# Altium footprint library Copy of PcbLib1.PcbLib: 29 footprints (part 1 of 2)
Each footprint in its own frame and in the unit in brackets; x right, y up, seen from the top. Pads: shape width x height; smd on the part's side, far side on the other; paste and mask are expansions set on the pad; w line width, h text height; cw(c..) or ccw(c..) is an arc to the next point about the centre after c.
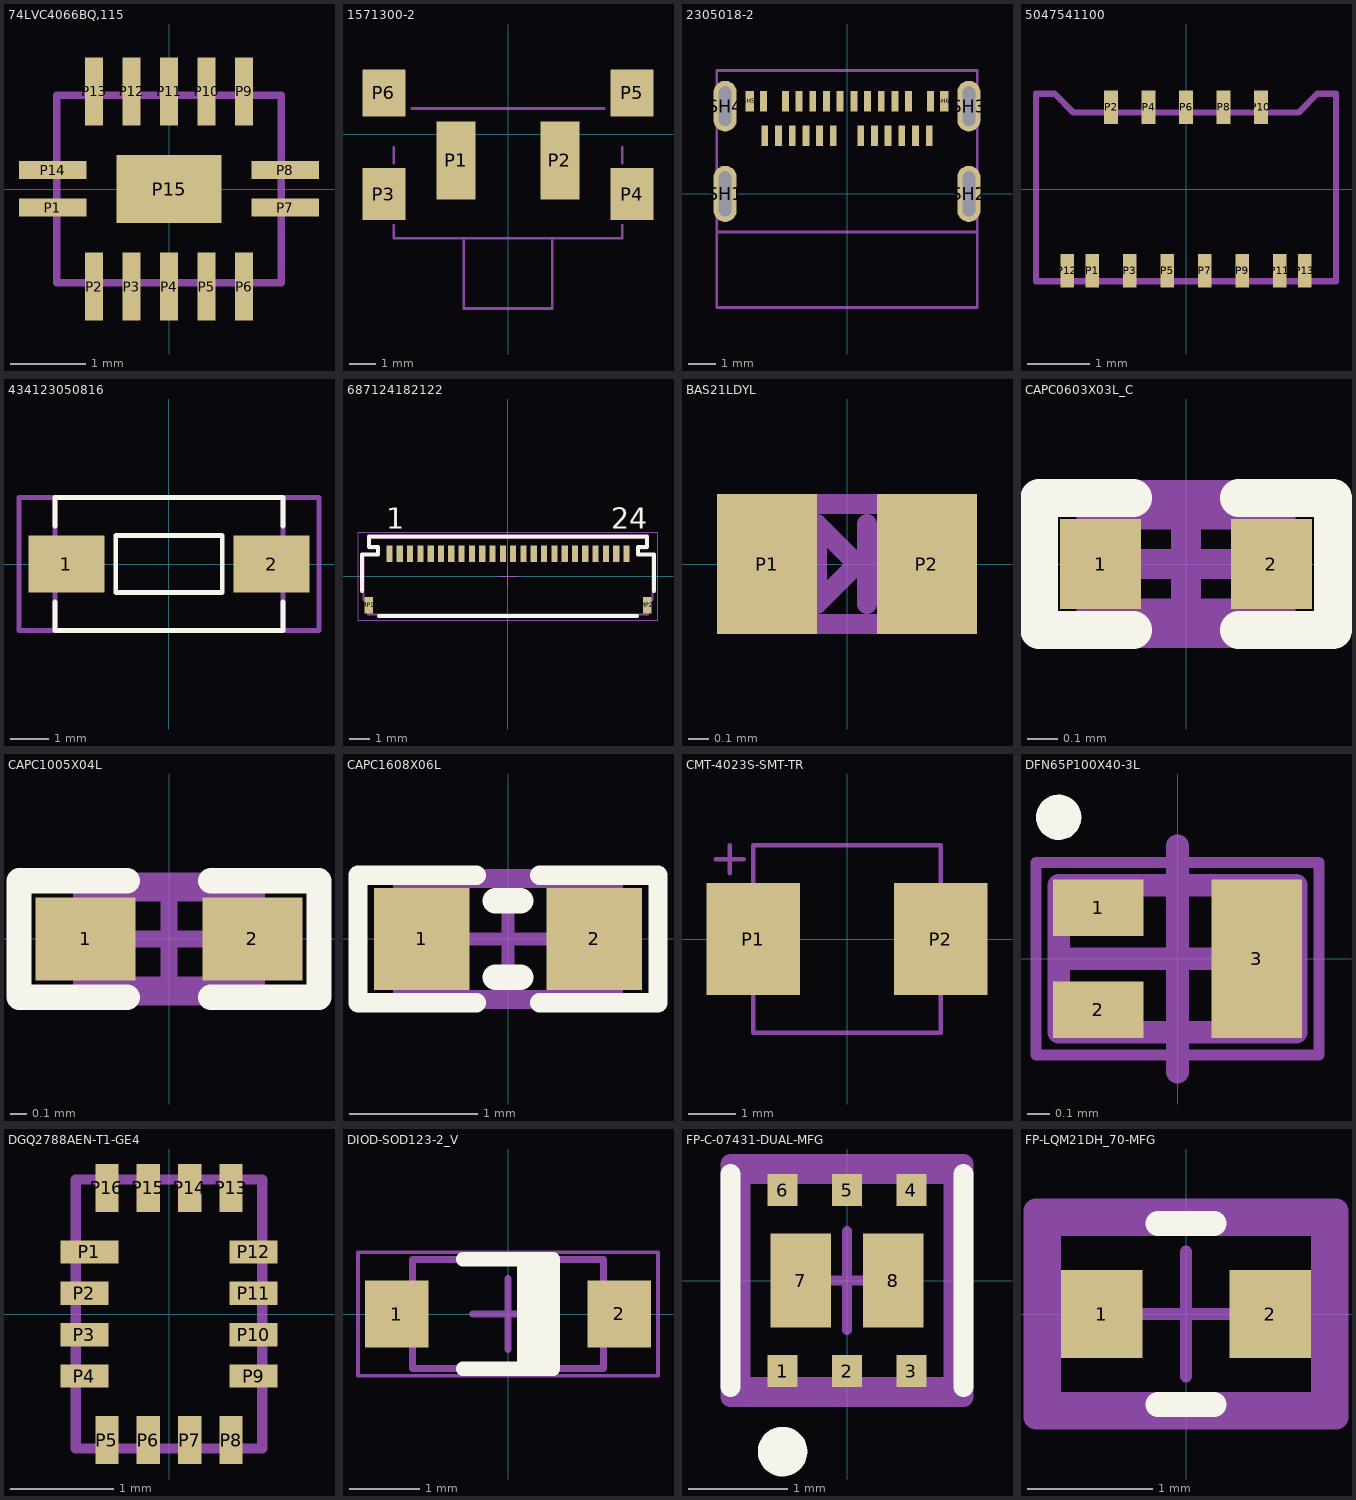
[diagram p0: the footprints below, top view; thin cyan lines are the x and y axes]

## 74LVC4066BQ,115 [mm] "Analogue Switch ICs QUAD ANALOG SW."
height 1
pads (15):
  rect 0.9x0.24 smd: P1(-1.55,-0.25) P7(1.55,-0.25) P8(1.55,0.25) P14(-1.55,0.25)
  rect 0.24x0.9 smd: P2(-1,-1.3) P3(-0.5,-1.3) P4(0,-1.3) P5(0.5,-1.3) P6(1,-1.3) P9(1,1.3) P10(0.5,1.3) P11(0,1.3) P12(-0.5,1.3) P13(-1,1.3)
  rect 1.4x0.9 smd: P15(0,0)
Top Designator:
  text ".Designator" at 0.1,0.3 h0.6
Top Assembly:
  lines w0.1: -1.5,-1.25 1.5,-1.25 1.5,1.25 -1.5,1.25 -1.5,-1.25
Top Component Outline:
  lines w0.1: -1.5,-1.25 1.5,-1.25 1.5,1.25 -1.5,1.25 -1.5,-1.25
3D body: height 1, standoff 0, extent -1.5,-1.25 1.5,1.25

## 1571300-2 [mm]
height 8.1
pads (6):
  rect 1.5x3 smd: P1(-2,-1) P2(2,-1)
  rect 1.65x2 smd: P3(-4.775,-2.3) P4(4.775,-2.3)
  rect 1.65x1.8 smd: P5(4.775,1.6) P6(-4.775,1.6)
Top Designator:
  text ".Designator" at 0.1,0.3 h0.6
Top Assembly:
  lines w0.1: -4.4,-3.5 -4.4,-4 4.4,-4 4.4,-3.5 ; -4.4,-1.1 -4.4,-0.5 ; -3.7,1 3.7,1 ; -1.7,-4 -1.7,-6.7 1.7,-6.7 1.7,-4 ; 4.4,-1.1 4.4,-0.5
Top Component Outline:
  lines w0.1: -4.4,-3.5 -4.4,-4 4.4,-4 4.4,-3.5 ; -4.4,-1.1 -4.4,-0.5 ; -3.7,1 3.7,1 ; -1.7,-4 -1.7,-6.7 1.7,-6.7 1.7,-4 ; 4.4,-1.1 4.4,-0.5
Multi-Layer:
  circle w0.01: c-4.4,0 r0.375
  circle w0.01: c4.4,0 r0.375
3D body "c-1571300-2-h-3d.stp": height 8.1, standoff -0.5, extent -4.85,-6.7 4.85,1.5

## 2305018-2 [mm] "USB TYPE C, REC IPX8 ON BOARD DUAL SMT"
height 4.06
pads (31):
  rect 0.25x0.75 smd: A1(-3.05,3.374) A2(-2.25,3.374) A3(-1.75,3.374) A4(-1.25,3.374) A5(-0.75,3.374) A6(-0.25,3.374) A7(0.25,3.374) A8(0.75,3.374) A9(1.25,3.374) A10(1.75,3.374) A11(2.25,3.374) A12(3.05,3.374) B1(3,2.124) B2(2.5,2.124) B3(2,2.124) B4(1.5,2.124) B5(1,2.124) B6(0.5,2.124) B7(-0.5,2.124) B8(-1,2.124) B9(-1.5,2.124) B10(-2,2.124) B10(-2,2.124) B11(-2.5,2.124) B12(-3,2.124)
  rrect100% 0.85x2.05 hole 0.45 slot 1.65 at 90 deg: SH1(-4.45,-0.001) SH2(4.45,-0.001)
  rrect100% 0.85x1.85 hole 0.45 slot 1.45 at 90 deg: SH3(4.45,3.199) SH4(-4.45,3.199)
  rect 0.3x0.75 smd: SH5(-3.55,3.374) SH6(3.55,3.374)
Top Designator:
  text ".Designator" at -7.618,-0.396 h1.52
Top Assembly:
  lines w0.1: -4.75,-1.4 4.75,-1.4 ; -4.75,-4.15 -4.75,4.5 4.75,4.5 4.75,-4.15 -4.75,-4.15
Top Component Outline:
  lines w0.1: -4.749,-1.398 4.751,-1.398 ; -4.749,-4.148 -4.749,4.502 4.751,4.502 4.751,-4.148 -4.749,-4.148
3D body "c-2305018-2-a-3d.stp": height 3.54, standoff -0.52, extent -4.918,-4.213 4.918,4.437

## 5047541100 [mm] "Connector FPC11"
height 0.75
pads (13):
  rect 0.22x0.54 smd: P1(-1.5,-1.307) P2(-1.2,1.308) P3(-0.9,-1.307) P4(-0.6,1.308) P5(-0.3,-1.307) P6(0,1.308) P7(0.3,-1.307) P8(0.6,1.308) P9(0.9,-1.307) P10(1.2,1.308) P11(1.5,-1.307) P12(-1.9,-1.307) P13(1.9,-1.307)
Top Designator:
  text ".Designator" at -2,-0.178 h0.6
Top Assembly:
  lines w0.1: -2.4,-1.477 -2.4,1.523 -2.1,1.523 -1.8,1.223 1.8,1.223 2.1,1.523 2.4,1.523 2.4,-1.477 -2.4,-1.477
Top Component Outline:
  lines w0.1: -2.4,-1.477 -2.4,1.523 -2.1,1.523 -1.8,1.223 1.8,1.223 2.1,1.523 2.4,1.523 2.4,-1.477 -2.4,-1.477
3D body "5047541100.stp": height 1.46, standoff -0.02, extent -2.4,-1.502 2.4,1.498

## 434123050816 [mm] "6.0*3.5mm vertical type, J-Bend SMD, height 5.0mm, black actuator, 160gf, T&R"
height 5
pads (2):
  rect 2x1.5 smd: 1(-2.7,0) 2(2.7,0)
Top Overlay:
  lines w0.127: -3,-1 -3,-1.75 ; 3,1 3,1.75 ; -3,-1.75 3,-1.75 3,-1 ; -3,-1.75 -3,-1.75 ; -3,1 -3,1.75 3,1.75 ; -3,1 -3,1 ; 3,-1 3,-1 ; 3,1.75 3,1.75 ; -1.4,-0.75 -1.4,0.75 1.4,0.75 1.4,-0.75 -1.4,-0.75
Bottom Component Outline:
  lines w0.127: -3.95,-1.75 3.95,-1.75 3.95,1.75 -3.95,1.75 -3.95,-1.75
  text ".Designator" at -3.683,2.301 h1.52
Top 3D Body:
  lines w0.127: -3,-1.75 3,-1.75 3,1.75 -3,1.75 -3,-1.75
3D body "4341x30508x6.stp": height 5, standoff 0, extent -3.649,-1.75 3.65,1.75

## 687124182122 [mm] "ZIF Connectors, Horizontal, Dual Contact Back Locking, pitch 0.5mm, 24p"
height 1.06
pads (26):
  rect 0.3x0.8 smd: 1(-5.75,1.1) 2(-5.25,1.1) 3(-4.75,1.1) 4(-4.25,1.1) 5(-3.75,1.1) 6(-3.25,1.1) 7(-2.75,1.1) 8(-2.25,1.1) 9(-1.75,1.1) 10(-1.25,1.1) 11(-0.75,1.1) 12(-0.25,1.1) 13(0.25,1.1) 14(0.75,1.1) 15(1.25,1.1) 16(1.75,1.1) 17(2.25,1.1) 18(2.75,1.1) 19(3.25,1.1) 20(3.75,1.1) 21(4.25,1.1) 22(4.75,1.1) 23(5.25,1.1) 24(5.75,1.1)
  rect 0.4x0.8 smd: MP1(-6.75,-1.4) MP2(6.75,-1.4)
Top Overlay:
  lines w0.2: -7.075,-0.7 -7.075,1.05 -6.3,1.05 -6.3,1.425 -6.75,1.425 -6.75,1.925 6.75,1.925 6.75,1.425 6.3,1.425 6.3,1.05 7.075,1.05 7.075,-0.7 ; -6.25,-1.925 6.25,-1.925
  text "24" at 5,2.3 h1.02
  text "1" at -5.9,2.3 h1.02
Mechanical 11:
  lines w0.1: -7,-1.15 -7,1.05 -6.3,1.05 -6.3,1.35 -6.75,1.35 -6.75,1.85 6.75,1.85 6.75,1.35 6.3,1.35 6.3,1.05 7,1.05 7,-1.15 6.8,-1.15 6.8,-1.85 -6.8,-1.85 -6.8,-1.15 -7,-1.15
  text ".Designator" at -1.75,-0.75 h1.5
Top 3D Body:
  lines w0.1: -7,-1.15 -6.8,-1.15 -6.8,-1.85 6.8,-1.85 6.8,-1.15 7,-1.15 7,1.05 6.3,1.05 6.3,1.35 6.75,1.35 6.75,1.85 -6.75,1.85 -6.75,1.35 -6.3,1.35 -6.3,1.05 -7,1.05 -7,-1.15
Top Courtyard:
  lines w0.05: -0.5,0 0.5,0 ; 0,-0.5 0,0.5 ; -7.275,-2.125 -7.275,2.125 7.275,2.125 7.275,-2.125 -7.275,-2.125
3D body "687124182122.stp": height 0.98, standoff -0.01, extent -7,-1.85 7,1.85

## BAS21LDYL [mm]
height 0.4
pads (2):
  rect 0.5x0.7 smd: P1(-0.4,0) P2(0.4,0)
Top Designator:
  text ".Designator" at 0.1,0.3 h0.6
Top Assembly:
  lines w0.1: -0.35,0 -0.15,0 ; 0.1,-0.2 0.1,0.2 ; 0.1,0 0.35,0 ; -0.5,-0.3 -0.5,0.3 0.5,0.3 0.5,-0.3 -0.5,-0.3 ; -0.15,-0.2 -0.15,0.2 0.05,0 -0.15,-0.2
Top Component Outline:
  lines w0.1: -0.5,-0.3 0.5,-0.3 0.5,0.3 -0.5,0.3 -0.5,-0.3
3D body: height 0.4, standoff 0, extent -0.5,-0.3 0.5,0.3

## CAPC0603X03L_C [mm]
pads (2):
  rect 0.27x0.3 smd mask+0.05: 1(-0.285,0) 2(0.285,0)
Top Overlay:
  lines w0.125: -0.175,-0.22 -0.49,-0.22 -0.49,0.22 -0.175,0.22 ; 0.175,-0.22 0.49,-0.22 0.49,0.22 0.175,0.22
Bottom Component Outline:
  lines w0.1: -0.315,-0.165 0.315,-0.165 0.315,0.165 -0.315,0.165 -0.315,-0.165
  text ".Designator" at -0.306,0.268 h0.3
Top Courtyard:
  lines w0.1: -0.165,0 0.165,0 ; 0,-0.165 0,0.165 ; -0.5,-0.23 0.5,-0.23 0.5,0.23 -0.5,0.23 -0.5,-0.23
3D body "User Library-0201(0603M) Cap.step": height 0.3, standoff -0.01, extent -0.305,-0.152 0.305,0.153

## CAPC1005X04L [mm]
pads (2):
  rect 0.6x0.5 smd: 1(-0.5,0) 2(0.5,0)
Top Overlay:
  lines w0.152: -0.25,-0.35 -0.9,-0.35 -0.9,0.35 -0.25,0.35 ; 0.25,-0.35 0.9,-0.35 0.9,0.35 0.25,0.35
Bottom Component Outline:
  lines w0.1: -0.525,-0.275 -0.525,0.275 0.525,0.275 0.525,-0.275 -0.525,-0.275
  text ".Designator" at -0.432,-0.152 h0.3
Top Courtyard:
  lines w0.1: -0.275,0 0.275,0 ; 0,-0.275 0,0.275 ; -0.9,-0.35 0.9,-0.35 0.9,0.35 -0.9,0.35 -0.9,-0.35
3D body "User Library-0402(1005M) Cap.step": height 0.5, standoff -0.01, extent -0.508,-0.254 0.508,0.254

## CAPC1608X06L [mm]
pads (2):
  rect 0.75x0.8 smd: 1(-0.675,0) 2(0.675,0)
Top Overlay:
  lines w0.152: -0.25,-0.5 -1.175,-0.5 -1.175,0.5 -0.25,0.5 ; 0.25,-0.5 1.175,-0.5 1.175,0.5 0.25,0.5
  lines w0.2: -0.1,-0.3 0.1,-0.3 ; -0.1,0.3 0.1,0.3
Bottom Component Outline:
  lines w0.1: -0.85,-0.45 -0.85,0.45 0.85,0.45 0.85,-0.45 -0.85,-0.45
  text ".Designator" at -0.711,-0.152 h0.3
Top Courtyard:
  lines w0.1: -0.45,0 0.45,0 ; 0,-0.45 0,0.45 ; -1.175,-0.5 1.175,-0.5 1.175,0.5 -1.175,0.5 -1.175,-0.5
3D body "User Library-Chip Capacitor 0603.step": height 0.8, standoff 0, extent -0.8,-0.43 0.8,0.43

## CMT-4023S-SMT-TR [mm] "Buzzer"
height 2
pads (2):
  rect 2x2.4 smd: P1(-2,0) P2(2,0)
Mechanical 1:
  lines w0.1: -2,-2 -2,2 2,2 2,-2 -2,-2
Top Designator:
  text ".Designator" at 0.1,0.3 h0.6
Top Assembly:
  lines w0.1: -2.8,1.7 -2.2,1.7 ; -2.5,1.4 -2.5,2 ; -2,-2 -2,2 2,2 2,-2 -2,-2
Top Component Outline:
  lines w0.1: -2,-2 -2,2 2,2 2,-2 -2,-2
3D body "CUI_DEVICES_CMT-4023S-SMT-TR.step": height 2, standoff 0, extent -2,-2 2,2

## DFN65P100X40-3L [mm]
pads (3):
  rect 0.4x0.25 smd: 1(-0.35,0.225) 2(-0.35,-0.225)
  rect 0.4x0.7 smd: 3(0.35,0)
Top Overlay:
  circle w0.1: c-0.525,0.625 r0.05
Bottom Component Outline:
  lines w0.1: -0.525,-0.325 0.525,-0.325 0.525,0.325 -0.525,0.325 -0.525,-0.325
  text ".Designator" at -0.425,-0.175 h0.38
Top Courtyard:
  lines w0.05: -0.625,-0.425 0.625,-0.425 0.625,0.425 -0.625,0.425 -0.625,-0.425
  lines w0.1: -0.5,0 0.5,0 ; 0,-0.5 0,0.5
3D body "DFN65P100X40-3L.step": height 0.4, standoff 0, extent -0.525,-0.325 0.525,0.325

## DGQ2788AEN-T1-GE4 [mm]
height 1
pads (16):
  rect 0.562x0.225 smd: P1(-0.769,0.6)
  rect 0.463x0.225 smd: P2(-0.818,0.2) P3(-0.818,-0.2) P4(-0.818,-0.6) P9(0.818,-0.6) P10(0.818,-0.2) P11(0.818,0.2) P12(0.818,0.6)
  rect 0.225x0.463 smd: P5(-0.6,-1.218) P6(-0.2,-1.218) P7(0.2,-1.218) P8(0.6,-1.218) P13(0.6,1.218) P14(0.2,1.218) P15(-0.2,1.218) P16(-0.6,1.218)
Top Designator:
  text ".Designator" at 0.1,0.3 h0.6
Top Assembly:
  lines w0.1: -0.9,-1.3 -0.9,1.3 0.9,1.3 0.9,-1.3 -0.9,-1.3
Top Component Outline:
  lines w0.1: -0.9,-1.3 -0.9,1.3 0.9,1.3 0.9,-1.3 -0.9,-1.3
3D body: height 0.55, standoff 0, extent -0.9,-1.3 0.9,1.3

## DIOD-SOD123-2_V [mm] "SOD123, 2-Leads, Body 2.7x1.55mm, Height 1.45mm"
height 1.45
pads (2):
  rect 0.9x0.95 smd: 1(-1.575,0) 2(1.575,0)
Top Overlay:
  rectangle: 0.127,-0.825 0.635,0.762
  lines w0.2: -0.635,-0.775 0.635,-0.775 0.635,0.775 -0.635,0.775
Top 3D Body:
  lines w0.1: -1.35,-0.775 1.35,-0.775 1.35,0.775 -1.35,0.775 -1.35,-0.775
Top Courtyard:
  lines w0.05: -2.125,-0.875 2.125,-0.875 2.125,0.875 -2.125,0.875 -2.125,-0.875
  lines w0.1: -0.5,0 0.5,0 ; 0,-0.5 0,0.5
3D body: height 1.45, standoff 0, extent -1.35,-0.775 1.35,0.775

## FP-C-07431-DUAL-MFG [mm]
pads (8):
  rect 0.3x0.325 smd paste+0 mask+0: 1(-0.65,-0.913) 2(0,-0.913) 3(0.65,-0.913) 4(0.65,0.913) 5(0,0.913) 6(-0.65,0.913)
  rect 0.613x0.95 smd paste+0 mask+0: 7(-0.466,0) 8(0.466,0)
Top Overlay:
  circle w0.25: c-0.65,-1.725 r0.125
  lines w0.2: -1.175,-1.075 -1.175,1.075 ; 1.175,-1.075 1.175,1.075
Top Assembly:
  lines w0.2: -1.175,-1.175 1.175,-1.175 1.175,1.175 -1.175,1.175 -1.175,-1.175
  text ".Designator" at 0,0.188 h1
Top 3D Body:
  lines w0.2: -1.075,-1.075 1.075,-1.075 1.075,1.075 -1.075,1.075 -1.075,-1.075
Top Courtyard:
  lines w0.2: -1.175,-1.175 1.175,-1.175 1.175,1.175 -1.175,1.175 -1.175,-1.175
Top Component Center:
  lines w0.1: -0.5,0 0.5,0 ; 0,-0.5 0,0.5
3D body "Trans_Vishay_SIA931DJ-T1-GE3_eec.STEP": height 0.25, standoff 0, extent -1.175,-1.175 1.175,1.175

## FP-LQM21DH_70-MFG [mm]
pads (2):
  rect 0.65x0.7 smd paste+0 mask+0: 1(-0.675,0) 2(0.675,0)
Top Overlay:
  lines w0.2: -0.225,-0.725 0.225,-0.725 ; -0.225,0.725 0.225,0.725
Top Assembly:
  lines w0.2: -1.2,-0.825 1.2,-0.825 1.2,0.825 -1.2,0.825 -1.2,-0.825
  text ".Designator" at 0,0.188 h1
Top 3D Body:
  lines w0.2: -1.1,-0.725 1.1,-0.725 1.1,0.725 -1.1,0.725 -1.1,-0.725
Top Courtyard:
  lines w0.2: -1.2,-0.825 1.2,-0.825 1.2,0.825 -1.2,0.825 -1.2,-0.825
Top Component Center:
  lines w0.1: -0.5,0 0.5,0 ; 0,-0.5 0,0.5
3D body "Ind_Murata_LQM21DH100M70L_eec.STEP": height 0.25, standoff 0, extent -1.2,-0.825 1.2,0.825